# Altium schematic symbol library ABM7-8.000MHZ-8-R80-D2Y-T.SchLib: 1 symbol
Pins are listed as number, name and electrical type; pins without a type are passive.

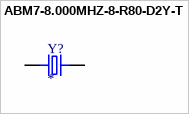
[diagram p0: symbol ABM7-8.000MHZ-8-R80-D2Y-T]

## ABM7-8.000MHZ-8-R80-D2Y-T
designator Y?
Crystal 22.1184MHz Ã‚Â±20ppm (Tol) Ã‚Â±30ppm (Stability) 18pF FUND 50Ohm 2-Pin Mini-CSMD T/R; MP: ABM7-8.000MHZ-8-R80-D2Y-T; Package: None; Price: None; Value: *; Availability: Unavailable
footprint XTAL_ABM7-8.000MHZ-8-R80-D2Y-T
pins: 1, 2